# Altium footprint library LED-1206-CATHODE.PcbLib: 1 footprints
Each footprint in its own frame and in the unit in brackets; x right, y up, seen from the top. Pads: shape width x height; smd on the part's side, far side on the other; paste and mask are expansions set on the pad; w line width, h text height; cw(c..) or ccw(c..) is an arc to the next point about the centre after c.
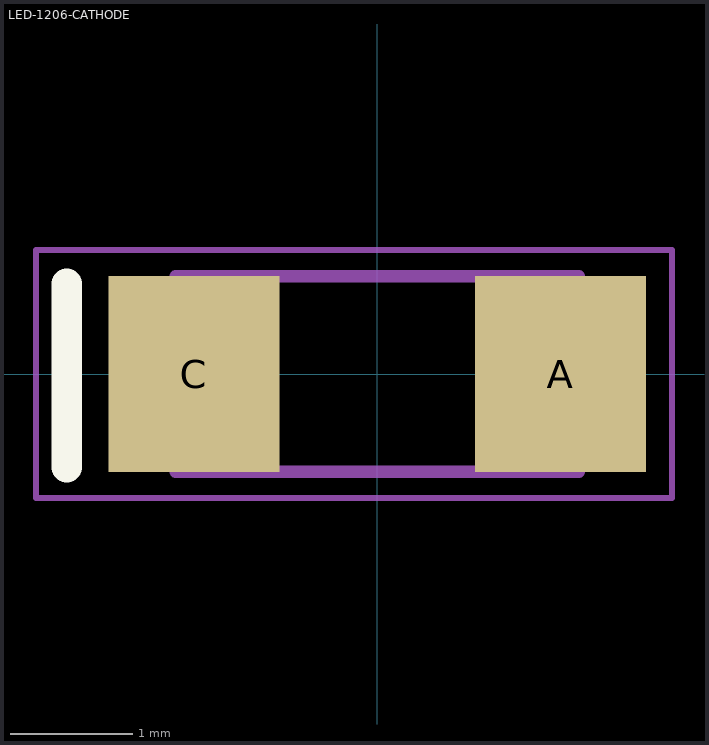
[diagram p0: the footprint, top view; thin cyan lines are the x and y axes]

## LED-1206-CATHODE [mm] "1206 Led cathode marking"
height 0.7
pads (2):
  rect 1.4x1.6 smd: A(1.5,0) C(-1.5,0)
Top Overlay:
  lines w0.25: -2.54,-0.762 -2.54,0.738
Top Assembly:
  lines w0.1: -1.651,-0.8 -1.651,0.8 1.651,0.8 1.651,-0.8 -1.651,-0.8
Top Courtyard:
  lines w0.05: -2.794,-1.016 -2.794,1.016 2.413,1.016 2.413,-1.016 -2.794,-1.016
Top Designator:
  text ".Designator" at -2.999,-0.2 h0.6
3D body "Download_STP_WL-SMCW-1206 (rev1).stp": height 0.68, standoff 0, extent -1.6,-0.8 1.6,0.8